# Altium footprint library INDC_1008_M2520.PcbLib: 1 footprints
Each footprint in its own frame and in the unit in brackets; x right, y up, seen from the top. Pads: shape width x height; smd on the part's side, far side on the other; paste and mask are expansions set on the pad; w line width, h text height; cw(c..) or ccw(c..) is an arc to the next point about the centre after c.
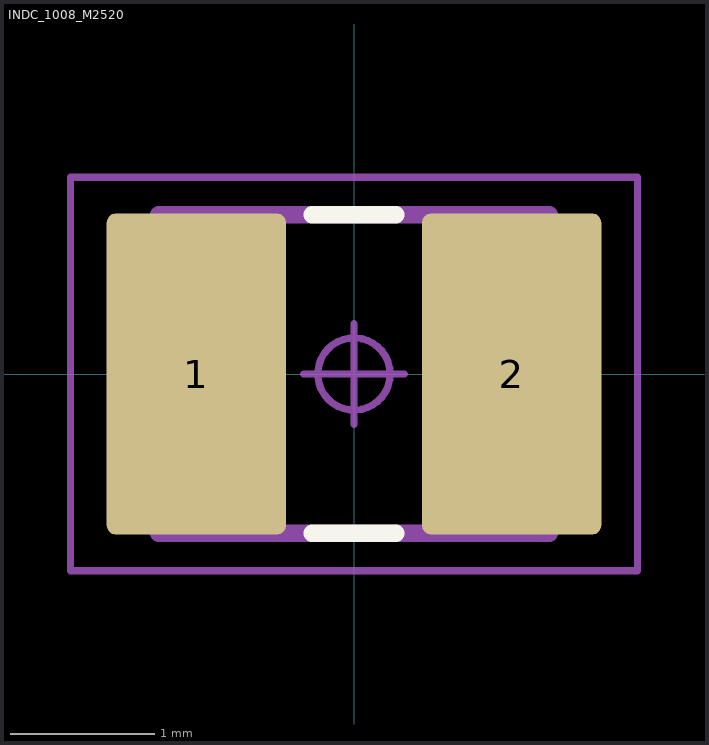
[diagram p0: the footprint, top view; thin cyan lines are the x and y axes]

## INDC_1008_M2520 [mm] "Inductor, Chip; 2.50 mm L X 2.00 mm W X 1.20 mm H body"
pads (2):
  rrect10% 1.24x2.22 smd: 1(-1.09,0) 2(1.09,0)
Top Overlay:
  lines w0.12: -0.29,-1.1 0.29,-1.1 ; -0.29,1.1 0.29,1.1
Mechanical 11:
  lines w0.12: -1.35,-1.1 -1.35,1.1 1.35,1.1 1.35,-1.1 -1.35,-1.1
  text ".Designator" at -1.821,-0.223 h1
Mechanical 15:
  circle w0.05: c0,0 r0.25
  lines w0.05: -0.35,0 0.35,0 ; 0,-0.35 0,0.35 ; -1.96,-1.36 -1.96,1.36 1.96,1.36 1.96,-1.36 -1.96,-1.36
3D body "INDC_1008-2520.STEP": height 1.2, standoff 0, extent -1.35,-1.1 1.35,1.1